# Altium schematic symbol library Si106x.SchLib: 1 symbol
Pins are listed as number, name and electrical type; pins without a type are passive.

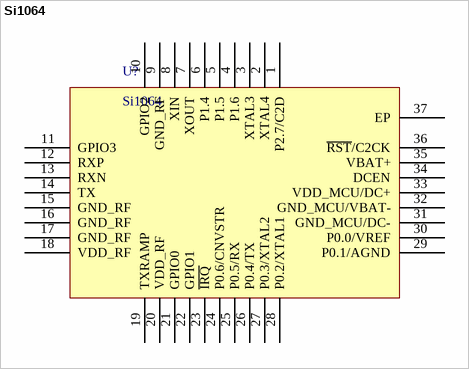
[diagram p0: symbol Si1064]

## Si1064
designator U?
pins: 1 P2.7/C2D, 2 XTAL4, 3 XTAL3, 4 P1.6, 5 P1.5, 6 P1.4, 7 XOUT, 8 XIN, 9 GND_RF, 10 GPIO2, 11 GPIO3, 12 RXP, 13 RXN, 14 TX, 15 GND_RF, 16 GND_RF, 17 GND_RF, 18 VDD_RF, 19 TXRAMP, 20 VDD_RF, 21 GPIO0, 22 GPIO1, 23 ~{IRQ}, 24 P0.6/CNVSTR, 25 P0.5/RX, 26 P0.4/TX, 27 P0.3/XTAL2, 28 P0.2/XTAL1, 29 P0.1/AGND, 30 P0.0/VREF, 31 GND_MCU/DC-, 32 GND_MCU/VBAT-, 33 VDD_MCU/DC+, 34 DCEN, 35 VBAT+, 36 ~{RST}/C2CK, 37 EP